# Altium footprint library SamacSys.PcbLib: 2 footprints
Each footprint in its own frame and in the unit in brackets; x right, y up, seen from the top. Pads: shape width x height; smd on the part's side, far side on the other; paste and mask are expansions set on the pad; w line width, h text height; cw(c..) or ccw(c..) is an arc to the next point about the centre after c.
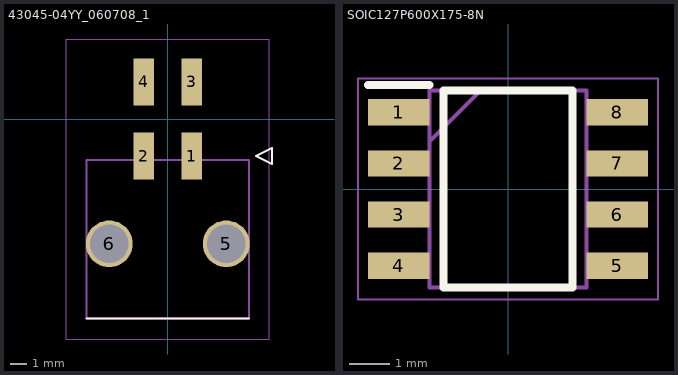
[diagram p0: the footprints below, top view; thin cyan lines are the x and y axes]

## 43045-04YY_060708_1 [mm]
pads (6):
  rect 1.27x2.92 smd: 1(1.5,-2.315) 2(-1.5,-2.315) 3(1.5,2.315) 4(-1.5,2.315)
  round 2.91 hole 2.41: 5(3.65,-7.785) 6(-3.65,-7.785)
Top Overlay:
  lines w0.127: -5.075,-12.455 5.075,-12.455 ; 5.5,-2.315 6.5,-1.815 6.5,-2.815 5.5,-2.315
Mechanical 13:
  lines w0.127: -5.075,-12.455 -5.075,-2.545 5.075,-2.545 5.075,-12.455 -5.075,-12.455 ; 5.5,-2.315 6.5,-1.815 6.5,-2.815 5.5,-2.315
Mechanical 15:
  lines w0.05: -6.345,-13.725 -6.345,4.994 6.345,4.994 6.345,-13.725 -6.345,-13.725
3D body "43045-0406.stp": height 8.69, standoff -2.08, extent -5.075,-12.465 5.075,2.933

## SOIC127P600X175-8N [mm]
pads (8):
  rect 1.525x0.65 smd: 1(-2.712,1.905) 2(-2.712,0.635) 3(-2.712,-0.635) 4(-2.712,-1.905) 5(2.712,-1.905) 6(2.712,-0.635) 7(2.712,0.635) 8(2.712,1.905)
Top Overlay:
  lines w0.2: -3.475,2.58 -1.95,2.58 ; -1.6,-2.45 1.6,-2.45 1.6,2.45 -1.6,2.45 -1.6,-2.45
Mechanical 13:
  lines w0.1: -1.95,1.18 -0.68,2.45 ; -1.95,-2.45 1.95,-2.45 1.95,2.45 -1.95,2.45 -1.95,-2.45
Mechanical 15:
  lines w0.05: -3.725,-2.75 3.725,-2.75 3.725,2.75 -3.725,2.75 -3.725,-2.75
3D body "NE555DR.stp": height 1.75, standoff 0, extent -3,-2.45 3,2.45